# Altium footprint library RC2512FR-074K3L.PcbLib: 1 footprints
Each footprint in its own frame and in the unit in brackets; x right, y up, seen from the top. Pads: shape width x height; smd on the part's side, far side on the other; paste and mask are expansions set on the pad; w line width, h text height; cw(c..) or ccw(c..) is an arc to the next point about the centre after c.
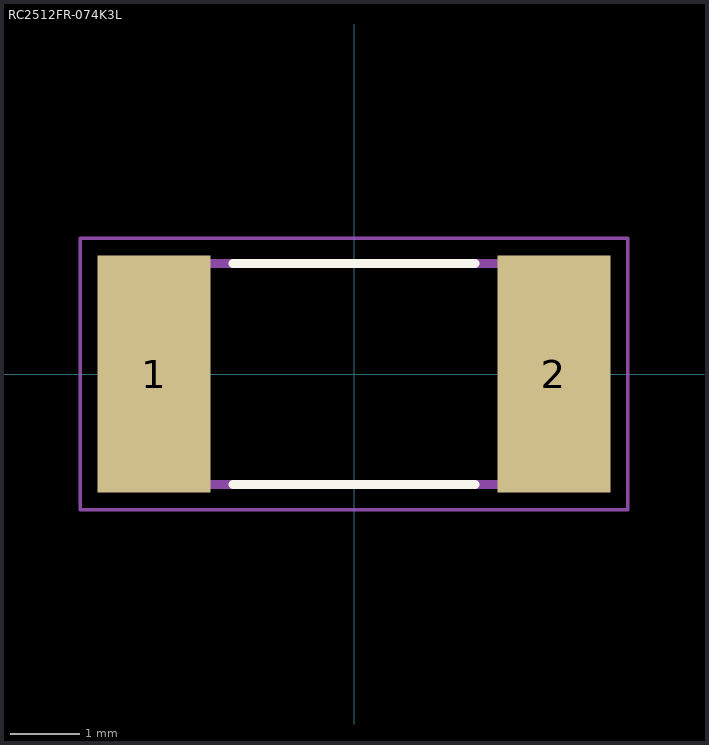
[diagram p0: the footprint, top view; thin cyan lines are the x and y axes]

## RC2512FR-074K3L [mm]
pads (2):
  rect 1.62x3.4 smd: 1(-2.873,0) 2(2.873,0)
Top Overlay:
  lines w0.127: -1.74,-1.59 1.74,-1.59 ; -1.74,1.59 1.74,1.59
Assembly Top:
  lines w0.127: -3.175,-1.59 3.175,-1.59 3.175,1.59 -3.175,1.59 -3.175,-1.59
Courtyard Top:
  lines w0.05: -3.933,-1.95 3.933,-1.95 3.933,1.95 -3.933,1.95 -3.933,-1.95
3D body "step_temp.STEP": height 0.65, standoff 0, extent -3.175,-1.6 3.175,1.6